# Altium schematic symbol library JTAG.SchLib: 9 symbols
Pins are listed as number, name and electrical type; pins without a type are passive.

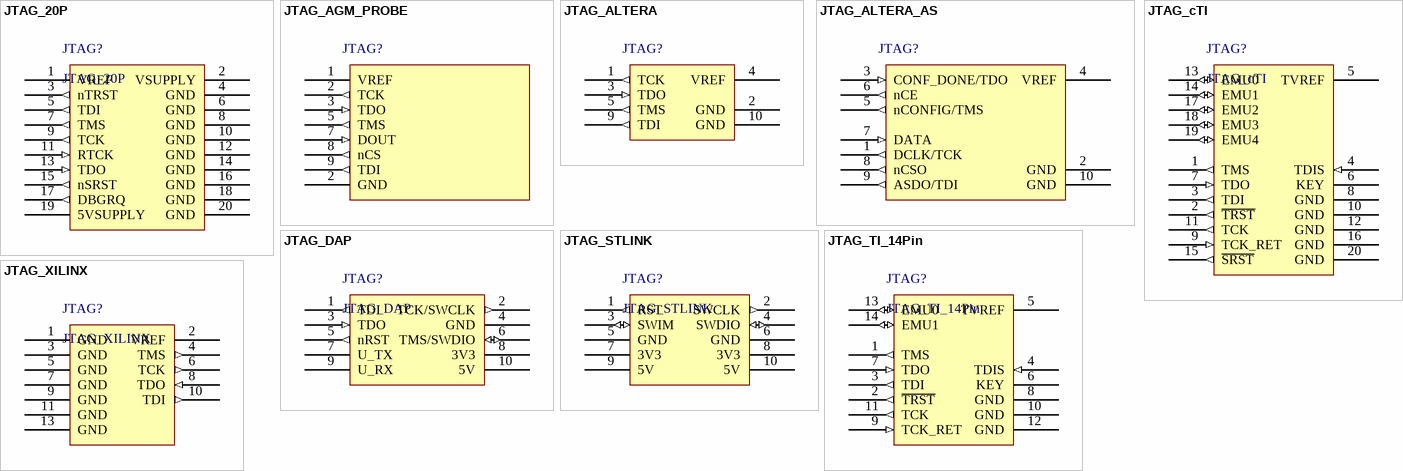
[diagram p0: symbols JTAG_20P to JTAG_XILINX]

## JTAG_20P
designator JTAG?
20 pin JTAG port
footprint JTAG20
footprint JTAG20_RA (Right angle)
pins: 1 VREF (power), 2 VSUPPLY (power), 3 nTRST (out), 4 GND (power), 5 TDI (out), 6 GND (power), 7 TMS (out), 8 GND (power), 9 TCK (out), 10 GND (power), 11 RTCK (in), 12 GND (power), 13 TDO (in), 14 GND (power), 15 nSRST (out), 16 GND (power), 17 DBGRQ (out), 18 GND (power), 19 5VSUPPLY (power), 20 GND (power)

## JTAG_AGM_PROBE
designator JTAG?  (value not drawn)
AGM JTAG probe port
pins: 1 VREF (power), 2 TCK (out), 2 GND (power), 3 TDO (in), 5 TMS (out), 7 DOUT (in), 8 nCS (out), 9 TDI (out)

## JTAG_ALTERA
designator JTAG?  (value not drawn)
ALTERA JTAG port
footprint JTAG10
footprint JTAG10_RA (Right angle)
pins: 1 TCK (out), 2 GND (power), 3 TDO (in), 4 VREF (power), 5 TMS (out), 9 TDI (out), 10 GND (power)

## JTAG_ALTERA_AS
designator JTAG?  (value not drawn)
ALTERA AS JTAG port
footprint JTAG10
footprint JTAG10_RA (Right angle)
pins: 1 DCLK/TCK (out), 2 GND (power), 3 CONF_DONE/TDO (in), 4 VREF (power), 5 nCONFIG/TMS (out), 6 nCE (out), 7 DATA (in), 8 nCSO (out), 9 ASDO/TDI (out), 10 GND (power)

## JTAG_cTI
designator JTAG?
Compact TI 20-Pin JTAG port
footprint JTAG20
pins: 1 TMS (out), 2 ~{TRST} (out), 3 TDI (out), 4 TDIS (in), 5 TVREF (power), 6 KEY, 7 TDO (in), 8 GND (power), 9 TCK_RET (in), 10 GND (power), 11 TCK (out), 12 GND (power), 13 EMU0 (io), 14 EMU1 (io), 15 ~{SRST} (out), 16 GND (power), 17 EMU2 (io), 18 EMU3 (io), 19 EMU4 (io), 20 GND (power)

## JTAG_DAP
designator JTAG?
CMSIS DAP JTAG port
footprint JTAG10
footprint JTAG10_RA (Right angle)
pins: 1 TDI (out), 2 TCK/SWCLK (out), 3 TDO (in), 4 GND (power), 5 nRST (out), 6 TMS/SWDIO (io), 7 U_TX (power), 8 3V3 (power), 9 U_RX (power), 10 5V (power)

## JTAG_STLINK
designator JTAG?
STLINK JTAG port
footprint JTAG10
footprint JTAG10_RA (Right angle)
pins: 1 RST (out), 2 SWCLK (out), 3 SWIM (io), 4 SWDIO (io), 5 GND (power), 6 GND (power), 7 3V3 (power), 8 3V3 (power), 9 5V (power), 10 5V (power)

## JTAG_TI_14Pin
designator JTAG?
TI 14-Pin JTAG port
footprint JTAG14 (Footprint not found)
pins: 1 TMS (out), 2 ~{TRST} (out), 3 TDI (out), 4 TDIS (in), 5 TVREF (power), 6 KEY, 7 TDO (in), 8 GND (power), 9 TCK_RET (in), 10 GND (power), 11 TCK (out), 12 GND (power), 13 EMU0 (io), 14 EMU1 (io)

## JTAG_XILINX
designator JTAG?
XILINX JTAG port
footprint JTAG14 (Footprint not found)
pins: 1 GND (power), 2 VREF (power), 3 GND (power), 4 TMS (out), 5 GND (power), 6 TCK (out), 7 GND (power), 8 TDO (in), 9 GND (power), 10 TDI (out), 11 GND (power), 13 GND (power)